# EAGLE library part REG710 (library WM_Parts)
Charge Pump
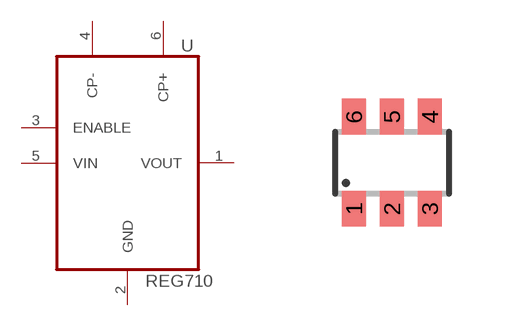
[diagram p1: symbol with the pads of SOT23-6; footprint SOT23-6]

Designator prefix -

## REG710  [SOT23-6]
1  VOUT  out
2  GND  pwr
3  ENABLE  in
4  CP-  pas
5  VIN  in
6  CP+  pas

## Footprint SOT23-6 (pad centres in mm)
Small Outline Transistor 6 lead
smd 0.6 x 0.9: 1 -0.95,-1.15; 2 0,-1.15; 3 0.95,-1.15; 4 0.95,1.15; 5 0,1.15; 6 -0.95,1.15